# Altium footprint library zg_mxx.PcbLib: 3 footprints
Each footprint in its own frame and in the unit in brackets; x right, y up, seen from the top. Pads: shape width x height; smd on the part's side, far side on the other; paste and mask are expansions set on the pad; w line width, h text height; cw(c..) or ccw(c..) is an arc to the next point about the centre after c.
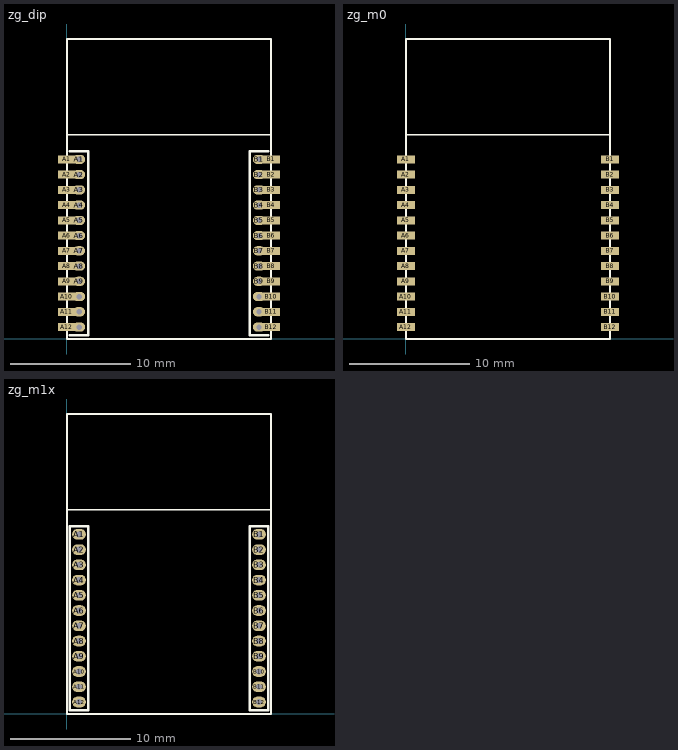
[diagram p0: the footprints below, top view; thin cyan lines are the x and y axes]

## zg_dip [mil]
height 50
pads (48):
  rect 60x26 smd: A1(0,589) A2(0,539) A3(0,489) A4(0,439) A5(0,389) A6(0,339) A7(0,289) A8(0,239) A9(0,189) A10(0,139) A11(0,89) A12(0,39) B1(669.29,589) B2(669.29,539) B3(669.29,489) B4(669.29,439) B5(669.29,389) B6(669.29,339) B7(669.29,289) B8(669.29,239) B9(669.29,189) B10(669.29,139) B11(669.29,89) B12(669.29,39)
  oval 40x30 hole 18: A1(39.54,589.3) A2(39.54,539.3) A3(39.54,489.3) A4(39.54,439.3) A5(39.54,389.3) A6(39.54,339.3) A7(39.54,289.3) A8(39.54,239.3) A9(39.54,189.3) A10(39.54,139.3) A11(39.54,89.3) A12(39.54,39.3) B1(629.91,589.3) B2(629.91,539.3) B3(629.91,489.3) B4(629.91,439.3) B5(629.91,389.3) B6(629.91,339.3) B7(629.91,289.3) B8(629.91,239.3) B9(629.91,189.3) B10(629.91,139.3) B11(629.91,89.3) B12(629.91,39.3)
Top Overlay:
  lines w6: 0,670 666.29,670 ; 669.29,0 0,0 0,984.15 669.29,984.15 669.29,0.79
  lines w8: 9.54,12.3 69.54,12.3 69.54,616.3 9.54,616.3 ; 659.91,12.3 599.91,12.3 599.91,616.3 659.91,616.3

## zg_m0 [mil]
height 50
pads (24):
  rect 60x26 smd: A1(0,589) A2(0,539) A3(0,489) A4(0,439) A5(0,389) A6(0,339) A7(0,289) A8(0,239) A9(0,189) A10(0,139) A11(0,89) A12(0,39) B1(669.29,589) B2(669.29,539) B3(669.29,489) B4(669.29,439) B5(669.29,389) B6(669.29,339) B7(669.29,289) B8(669.29,239) B9(669.29,189) B10(669.29,139) B11(669.29,89) B12(669.29,39)
Top Overlay:
  lines w6: 0,670 666.29,670 ; 669.29,0 0,0 0,984.15 669.29,984.15 669.29,0.79

## zg_m1x [mil]
height 50
pads (24):
  oval 45x35 hole 19: A1(39.54,589.3) A2(39.54,539.3) A3(39.54,489.3) A4(39.54,439.3) A5(39.54,389.3) A6(39.54,339.3) A7(39.54,289.3) A8(39.54,239.3) A9(39.54,189.3) A10(39.54,139.3) A11(39.54,89.3) A12(39.54,39.3) B1(629.91,589.3) B2(629.91,539.3) B3(629.91,489.3) B4(629.91,439.3) B5(629.91,389.3) B6(629.91,339.3) B7(629.91,289.3) B8(629.91,239.3) B9(629.91,189.3) B10(629.91,139.3) B11(629.91,89.3) B12(629.91,39.3)
Top Overlay:
  lines w6: 0,670 666.29,670 ; 669.29,0 0,0 0,984.15 669.29,984.15 669.29,0.79
  lines w8: 9.54,12.3 69.54,12.3 69.54,616.3 9.54,616.3 9.54,12.3 ; 599.91,12.3 659.91,12.3 659.91,616.3 599.91,616.3 599.91,12.3